# EAGLE library part PIC32_SOCKET (library ME433_Breakout)
CONN IC DIP SOCKET 28POS TIN
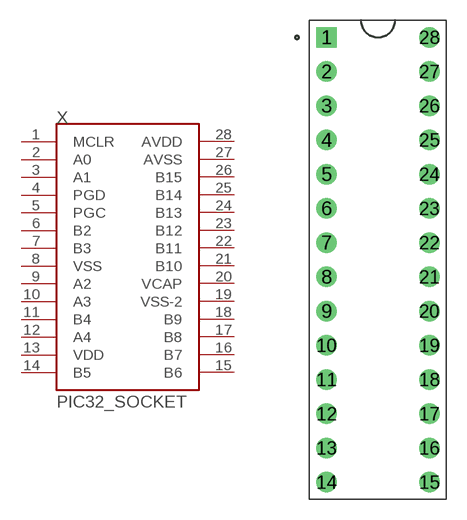
[diagram p0: symbol with the pads of OST_ED281DT; footprint OST_ED281DT]

Designator prefix X

## PIC32_SOCKET (DESCRIPTION: 28 (2 x 14) Pos DIP, 0.3 (7.62mm) Row Spacing Socket Tin Through Hole; DIGI-KEY_PART_NUMBER: ED3050-5-ND; MF: On Shore; MP: ED281DT; PACKAGE: None; PURCHASE-URL: https://pricing.snapeda.com/search/part/ED281DT/?ref=eda)  [OST_ED281DT]
1  MCLR  pas
2  A0  pas
3  A1  pas
4  PGD  pas
5  PGC  pas
6  B2  pas
7  B3  pas
8  VSS  pas
9  A2  pas
10  A3  pas
11  B4  pas
12  A4  pas
13  VDD  pas
14  B5  pas
15  B6  pas
16  B7  pas
17  B8  pas
18  B9  pas
19  VSS-2  pas
20  VCAP  pas
21  B10  pas
22  B11  pas
23  B12  pas
24  B13  pas
25  B14  pas
26  B15  pas
27  AVSS  pas
28  AVDD  pas

## Footprint OST_ED281DT (pad centres in mm)
drill 1 square: 1 -3.81,16.51
drill 1: 2 -3.81,13.97; 3 -3.81,11.43; 4 -3.81,8.89; 5 -3.81,6.35; 6 -3.81,3.81; 7 -3.81,1.27; 8 -3.81,-1.27; 9 -3.81,-3.81; 10 -3.81,-6.35; 11 -3.81,-8.89; 12 -3.81,-11.43; 13 -3.81,-13.97; 14 -3.81,-16.51; 15 3.81,-16.51; 16 3.81,-13.97; 17 3.81,-11.43; 18 3.81,-8.89; 19 3.81,-6.35; 20 3.81,-3.81; 21 3.81,-1.27; 22 3.81,1.27; 23 3.81,3.81; 24 3.81,6.35; 25 3.81,8.89; 26 3.81,11.43; 27 3.81,13.97; 28 3.81,16.51